# Altium schematic symbol library SCH - POWER - LINEAR VREG - TI LP5912-Q1-1P8DRV.SchLib: 1 symbol
Pins are listed as number, name and electrical type; pins without a type are passive.

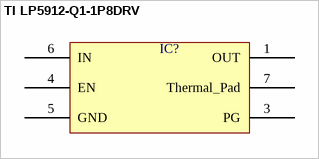
[diagram p0: symbol TI LP5912-Q1-1P8DRV]

## TI LP5912-Q1-1P8DRV
designator IC?  (value not drawn)
pins: 1 OUT, 3 PG, 4 EN, 5 GND, 6 IN, 7 Thermal_Pad